# EAGLE library part ADALOGGER_M0 (library Adalogger_32u4)
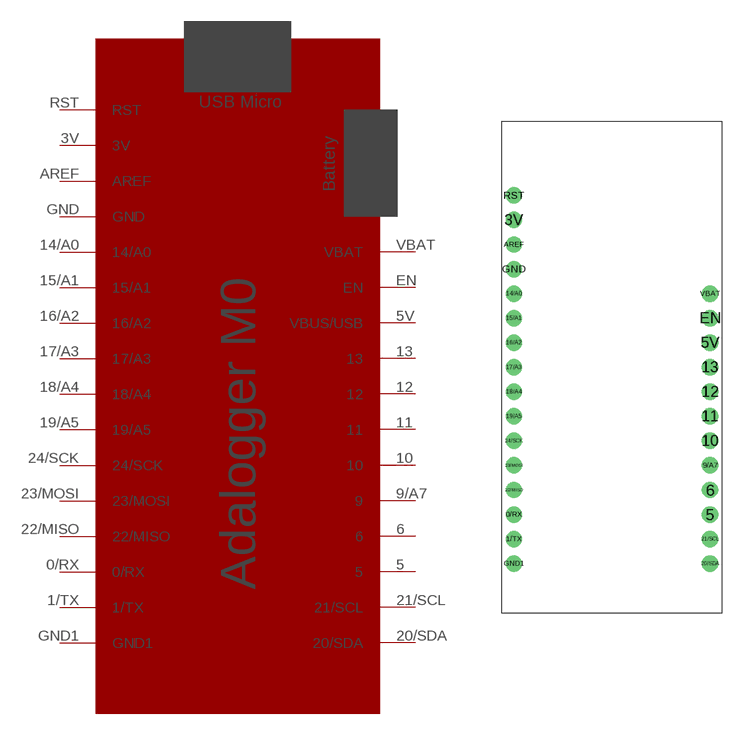
[diagram p0: symbol with the pads of BOARD; footprint BOARD]

Designator prefix -

## ADALOGGER_M0 (VALUE: Adalogger M0)  [BOARD]
0/RX  0/RX
1/TX  1/TX
3V  3V
5  5
5V  VBUS/USB
6  6
9/A7  9
10  10
11  11
12  12
13  13
14/A0  14/A0
15/A1  15/A1
16/A2  16/A2
17/A3  17/A3
18/A4  18/A4
19/A5  19/A5
20/SDA  20/SDA
21/SCL  21/SCL
22/MISO  22/MISO
23/MOSI  23/MOSI
24/SCK  24/SCK
AREF  AREF
EN  EN
GND  GND
GND1  GND1
RST  RST
VBAT  VBAT

## Footprint BOARD (pad centres in mm)
drill 0.9 pad 1.7: 0/RX 1.27,-40.64; 1/TX 1.27,-43.18; 3V 1.27,-10.16; 5 21.59,-40.64; 5V 21.59,-22.86; 6 21.59,-38.1; 9/A7 21.59,-35.56; 10 21.59,-33.02; 11 21.59,-30.48; 12 21.59,-27.94; 13 21.59,-25.4; 14/A0 1.27,-17.78; 15/A1 1.27,-20.32; 16/A2 1.27,-22.86; 17/A3 1.27,-25.4; 18/A4 1.27,-27.94; 19/A5 1.27,-30.48; 20/SDA 21.59,-45.72; 21/SCL 21.59,-43.18; 22/MISO 1.27,-38.1; 23/MOSI 1.27,-35.56; 24/SCK 1.27,-33.02; AREF 1.27,-12.7; EN 21.59,-20.32; GND 1.27,-15.24; GND1 1.27,-45.72; RST 1.27,-7.62; VBAT 21.59,-17.78